# Altium schematic symbol library UmbilicalBoard.SchLib: 13 symbols
Pins are listed as number, name and electrical type; pins without a type are passive.

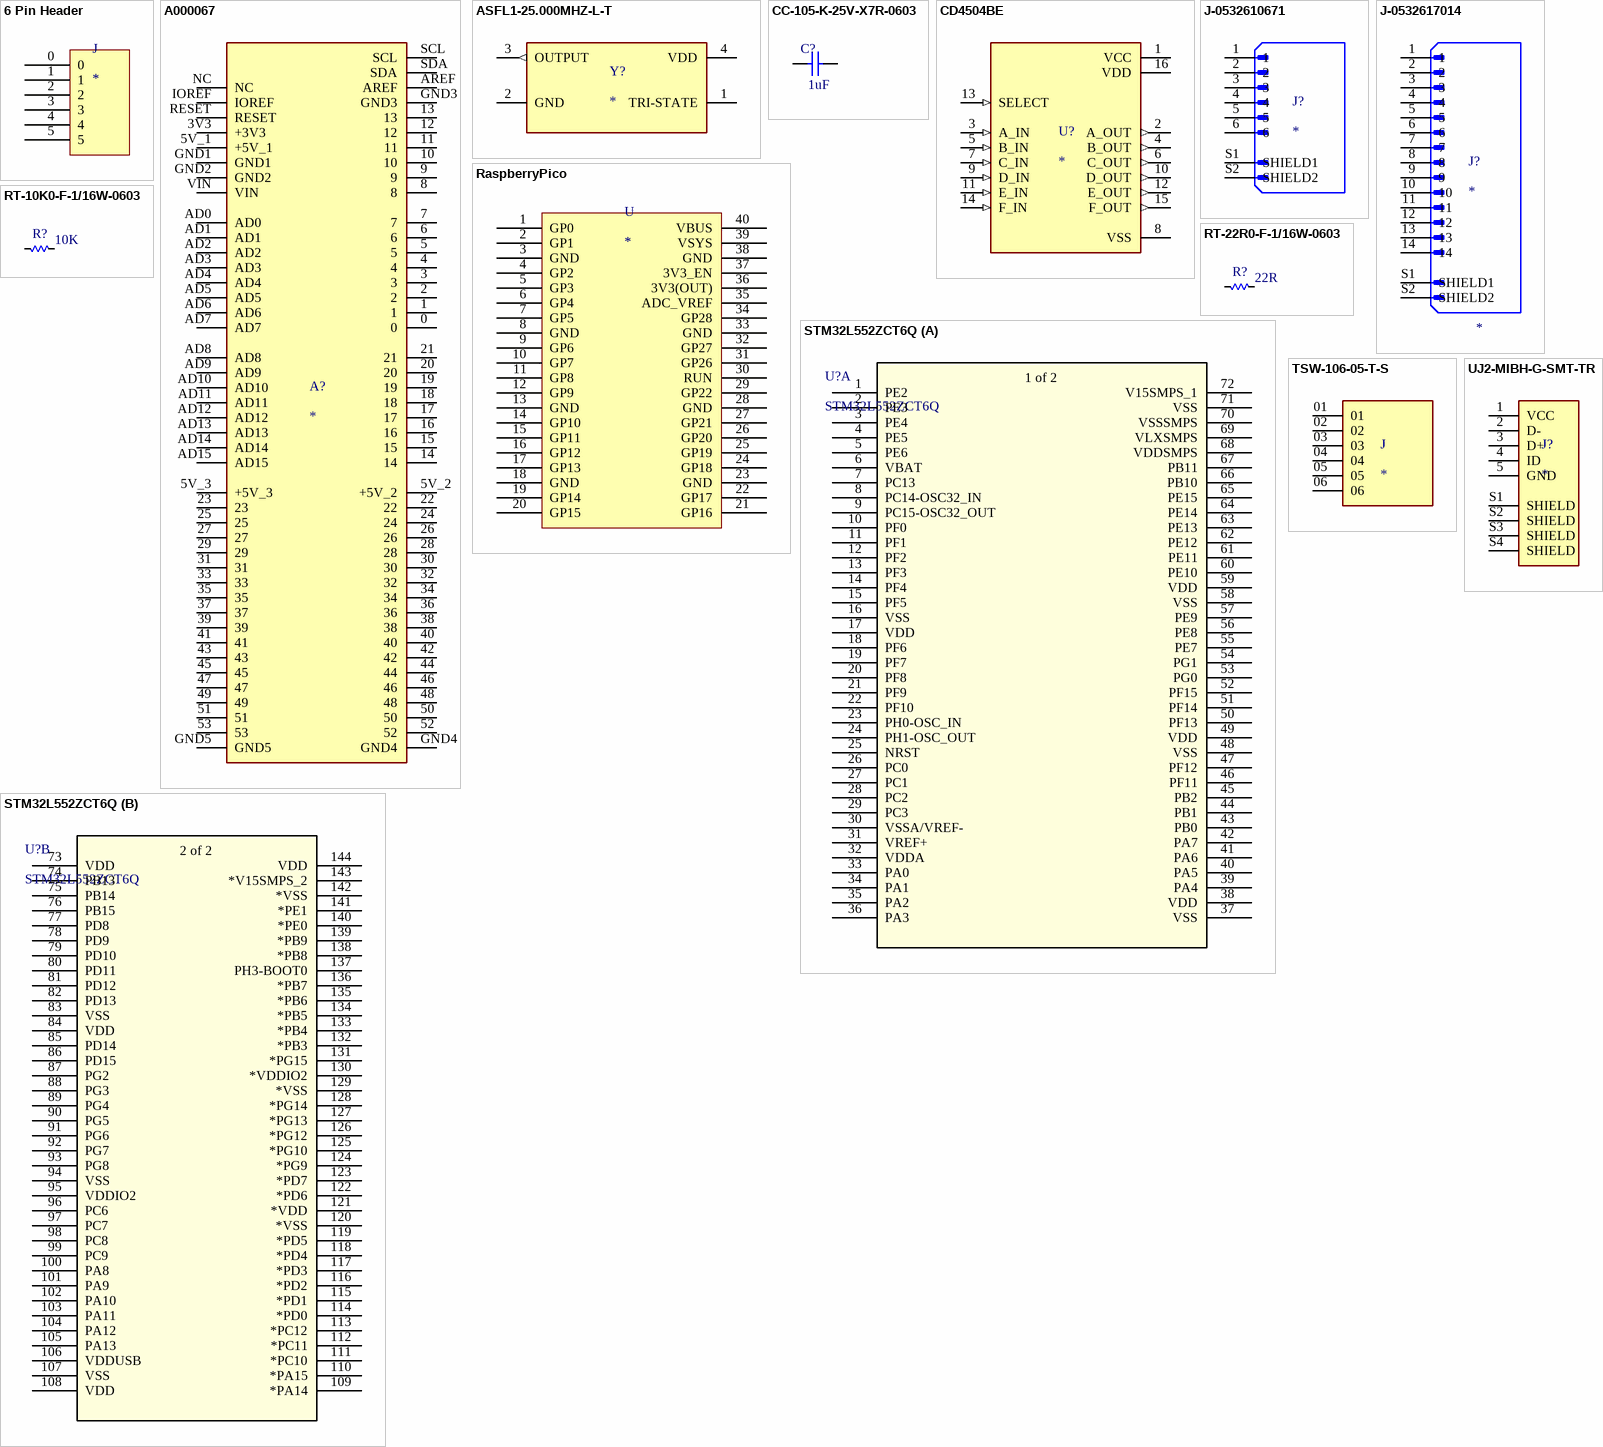
[diagram p0: symbols 6 Pin Header to UJ2-MIBH-G-SMT-TR]

## 6 Pin Header
designator J
pins: 0, 1, 2, 3, 4, 5

## A000067
designator A?
ARDUINO UNO REV3 DEVELOPMENT BOARD; MP: A000067; Package: None; Value: *; Price: None; Availability: Unavailable
footprint ARDUINO_A000067
pins: 0, 1, 2, 3, 3V3 +3V3, 4, 5, 5V_1 +5V_1, 5V_2 +5V_2, 5V_3 +5V_3, 6, 7, 8, 9, 10, 11, 12, 13, 14, 15, 16, 17, 18, 19, 20, 21, 22, 23, 24, 25, 26, 27, 28, 29, 30, 31, 32, 33, 34, 35, 36, 37, 38, 39, 40, 41, 42, 43, 44, 45, 46, 47, 48, 49, 50, 51, 52, 53, AD0, AD1, AD2, AD3, AD4, AD5, AD6, AD7, AD8, AD9, AD10, AD11, AD12, AD13, AD14, AD15, AREF, GND1, GND2, GND3, GND4, GND5, IOREF, NC, RESET, SCL, SDA, VIN

## ASFL1-25.000MHZ-L-T
designator Y?
MP: ASFL1-25.000MHZ-L-T; Value: *; Price: None; Package: None; Availability: Unavailable
footprint XTAL_ASFL1-25.000MHZ-L-T
pins: 1 TRI-STATE, 2 GND (power), 3 OUTPUT (out), 4 VDD (power)

## CC-105-K-25V-X7R-0603
designator C?, comment 1uF
CAP CER 1UF 25V X7R 0603; Manufacturer: Yageo; Manufacturer Part #: CC0603KRX7R8BB105; SignalCraft Part #: CC-105-K-25V-X7R-0603; ComponentLink1Description: Datasheet; ComponentLink1URL: https://www.yageo.com/upload/media/product/productsearch/datasheet/mlcc/UPY-GPHC_X7R_6.3V-to-50V_18.pdf; ComponentLink2Description: Manufacture Website; ComponentLink2URL: https://www.yageo.com/en/Home; Distributor: Digikey; Distributor Part #: 311-1802-1-ND; Part Description: CAP CER 1UF 25V X7R 0603; Value: 1uF
footprint 0603
pins: 1, 2

## CD4504BE
designator U?
CMOS Hex Voltage-Level Shifter for TTL-to-CMOS or CMOS-to-CMOS Operation 16-PDIP -55 to 125; MF: Texas Instruments; MP: CD4504BE; Purchase-URL: https://pricing.snapeda.com/search/part/CD4504BE/?ref=eda; Package: PDIP-16 Texas Instruments; Value: *; Availability: Good; Price: None; SnapEDA_Link: https://www.snapeda.com/parts/CD4504BE/Texas%20Instruments/view-part/44924/?ref=snap; Check_prices: https://www.snapeda.com/parts/CD4504BE/Texas%20Instruments/view-part/44924/?ref=eda
footprint CD4504BE
pins: 1 VCC (power), 2 A_OUT (out), 3 A_IN (in), 4 B_OUT (out), 5 B_IN (in), 6 C_OUT (out), 7 C_IN (in), 8 VSS (power), 9 D_IN (in), 10 D_OUT (out), 11 E_IN (in), 12 E_OUT (out), 13 SELECT (in), 14 F_IN (in), 15 F_OUT (out), 16 VDD (power)

## J-0532610671
designator J?
CONN HEADER SMD R/A 6POS 1.25MM; Manfacturer Part #: 0532610671; Manfacturer: Molex; Distributor: Digi-Key; Distributor Part #: WM7624CT-ND
footprint J-0532610671
pins: 1, 2, 3, 4, 5, 6, S1 SHIELD1, S2 SHIELD2

## J-0532617014
designator J?
Connector Header Surface Mount, Right Angle 14 position 0.049 (1.25mm); Manufacturer: Molex; Manufacturer Part #: 0532617014; Distributor: Digikey; Distributor Part #: 900-0532617014CT-ND; SnapEDA_Link: https://www.snapeda.com/parts/532617014/Molex/view-part/5064407/?ref=snap; 2: *
footprint J-532617014
pins: 1, 2, 3, 4, 5, 6, 7, 8, 9, 10, 11, 12, 13, 14, S1 SHIELD1, S2 SHIELD2

## RaspberryPico
designator U
footprint RaspberryPico
pins: 1 GP0, 2 GP1, 3 GND, 4 GP2, 5 GP3, 6 GP4, 7 GP5, 8 GND, 9 GP6, 10 GP7, 11 GP8, 12 GP9, 13 GND, 14 GP10, 15 GP11, 16 GP12, 17 GP13, 18 GND, 19 GP14, 20 GP15, 21 GP16, 22 GP17, 23 GND, 24 GP18, 25 GP19, 26 GP20, 27 GP21, 28 GND, 29 GP22, 30 RUN, 31 GP26, 32 GP27, 33 GND, 34 GP28, 35 ADC_VREF, 36 3V3(OUT), 37 3V3_EN, 38 GND, 39 VSYS, 40 VBUS

## RT-10K0-F-1/16W-0603
designator R?, comment 10K
10 kOhms ±0.1% 0.063W, 1/16W Chip Resistor 0603 (1608 Metric) - Thin Film; Manufacturer: TE Connectivity Passive Product; Manufacturer Part #: CPF0603B10KE; ComponentLink1description: Datasheet; ComponentLink1URL: https://www.vishay.com/docs/20035/dcrcwe3.pdf; ComponentLink2description: Manufacturer Website; Distributor: Digikey; Distributor Part #: A119886CT-ND; Part Description: 10 kOhms ±0.1% 0.063W, 1/16W Chip Resistor 0603 (1608 Metric) - Thin Film; ComponentLink2URL: https://www.vishay.com/; Value: 10K
footprint 0603
pins: 1, 2

## RT-22R0-F-1/16W-0603
designator R?, comment 22R
22 Ohms ±0.5% 0.063W, 1/16W Chip Resistor 0603 (1608 Metric) - Thin Film; Manufacturer: Susumu; Manufacturer Part #: RR0816Q-220-D; ComponentLink1description: Datasheet; ComponentLink1URL: https://www.vishay.com/docs/20035/dcrcwe3.pdf; ComponentLink2description: Manufacturer Website; Distributor: Digikey; Distributor Part #: RR08Q22DCT-ND; Part Description: 22 Ohms ±0.5% 0.063W, 1/16W Chip Resistor 0603 (1608 Metric) - Thin Film; ComponentLink2URL: https://www.vishay.com/; Value: 22R
footprint 0603
pins: 1, 2

## STM32L552ZCT6Q
designator U?
IC MCU 32BIT 256KB FLASH 144LQFP; Mfr_Name: STMicroelectronics; Copyright: Copyright (C) 2023 Ultra Librarian. All rights reserved.; Manufacturer_Part_Number: STM32L552ZCT6Q; Digi-Key_Part_Number_1: 497-STM32L552ZCT6Q-ND; RefDes: RefDes; Type: DEV
footprint U_STM32L552ZCT6Q_STM
footprint STM32L552ZCT6Q
part A pins: 1 PE2, 2 PE3, 3 PE4, 4 PE5, 5 PE6, 6 VBAT (power), 7 PC13, 8 PC14-OSC32_IN, 9 PC15-OSC32_OUT, 10 PF0, 11 PF1, 12 PF2, 13 PF3, 14 PF4, 15 PF5, 16 VSS, 17 VDD (power), 18 PF6 (oc), 19 PF7 (oc), 20 PF8 (oc), 21 PF9 (oc), 22 PF10 (oc), 23 PH0-OSC_IN (oc), 24 PH1-OSC_OUT (oc), 25 NRST (oc), 26 PC0 (oc), 27 PC1 (oc), 28 PC2 (oc), 29 PC3 (oc), 30 VSSA/VREF- (oc), 31 VREF+ (oc), 32 VDDA (oc), 33 PA0 (oc), 34 PA1 (oc), 35 PA2 (oc), 36 PA3 (oc), 37 VSS, 38 VDD (power), 39 PA4, 40 PA5, 41 PA6, 42 PA7, 43 PB0, 44 PB1, 45 PB2, 46 PF11, 47 PF12, 48 VSS, 49 VDD (power), 50 PF13, 51 PF14, 52 PF15, 53 PG0, 54 PG1, 55 PE7, 56 PE8, 57 PE9, 58 VSS, 59 VDD (power), 60 PE10, 61 PE11, 62 PE12, 63 PE13, 64 PE14, 65 PE15, 66 PB10, 67 PB11, 68 VDDSMPS (power), 69 VLXSMPS (power), 70 VSSSMPS, 71 VSS, 72 V15SMPS_1 (power)
part B pins: 73 VDD, 74 PB13, 75 PB14, 76 PB15, 77 PD8, 78 PD9, 79 PD10, 80 PD11, 81 PD12, 82 PD13, 83 VSS, 84 VDD, 85 PD14, 86 PD15, 87 PG2, 88 PG3, 89 PG4, 90 PG5, 91 PG6, 92 PG7, 93 PG8, 94 VSS, 95 VDDIO2, 96 PC6, 97 PC7, 98 PC8, 99 PC9, 100 PA8, 101 PA9, 102 PA10, 103 PA11, 104 PA12, 105 PA13, 106 VDDUSB, 107 VSS, 108 VDD, 109 *PA14, 110 *PA15, 111 *PC10, 112 *PC11, 113 *PC12, 114 *PD0, 115 *PD1, 116 *PD2, 117 *PD3, 118 *PD4, 119 *PD5, 120 *VSS, 121 *VDD, 122 *PD6, 123 *PD7, 124 *PG9, 125 *PG10, 126 *PG12, 127 *PG13, 128 *PG14, 129 *VSS, 130 *VDDIO2, 131 *PG15, 132 *PB3, 133 *PB4, 134 *PB5, 135 *PB6, 136 *PB7, 137 PH3-BOOT0, 138 *PB8, 139 *PB9, 140 *PE0, 141 *PE1, 142 *VSS, 143 *V15SMPS_2, 144 VDD
part A text: 1 of 2
part B text: 2 of 2

## TSW-106-05-T-S
designator J
CONN HEADER VERT 6POS 2.54MM; MP: TSW-106-05-T-S; MF: Samtec; Availability: Unavailable; Package: None; Value: *; Price: None
footprint TSW-106-05-T-S (CONN HEADER VERT 6POS 2.54MM)
pins: 01, 02, 03, 04, 05, 06

## UJ2-MIBH-G-SMT-TR
designator J?
USB JACK, 2.0, MICRO B TYPE, 5 P; MF: CUI Devices; MP: UJ2-MIBH-G-SMT-TR; Value: *; SnapEDA_Link: https://www.snapeda.com/parts/UJ2-MIBH-G-SMT-TR/CUI+Devices/view-part/?ref=snap; Purchase-URL: https://pricing.snapeda.com/search/part/UJ2-MIBH-G-SMT-TR/?ref=eda; Availability: In Stock; Price: None; Package: None; Check_prices: https://www.snapeda.com/parts/UJ2-MIBH-G-SMT-TR/CUI+Devices/view-part/?ref=eda; CUI_purchase_URL: https://www.cuidevices.com/product/interconnect/connectors/usb-connectors/uj2-mibh-g-smt-tr?utm_source=snapeda.com&utm_medium=referral&utm_campaign=snapedaBOM
footprint UJ2-MIBH-G-SMT-TR
pins: 1 VCC (power), 2 D-, 3 D+, 4 ID, 5 GND (power), S1 SHIELD, S2 SHIELD, S3 SHIELD, S4 SHIELD